# EAGLE library part MIC4812 (library NicksParts)
High current 6 channel linear WLED driver with DAM and ultrafast PWM control. 3.0 - 5.5V operation 100 mA per channel
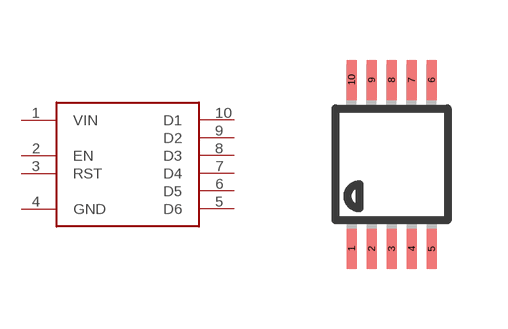
[diagram p16: symbol with the pads of MSOP10; footprint MSOP10]

Designator prefix U

## MIC4812  [MSOP10]
1  VIN
2  EN
3  RST
4  GND
5  D6
6  D5
7  D4
8  D3
9  D2
10  D1

## Footprint MSOP10 (pad centres in mm)
10-Lead Mini Small Outline Package [MSOP] (RM-10) Source: http://www.analog.com/UploadedFiles/Data_Sheets/35641221898805SSM2167_b.pdf COMPLIANT TO JEDEC STANDARDS MO-187BA
smd 0.25 x 1: 1 -1,-2.113; 2 -0.5,-2.113; 3 0,-2.113; 4 0.5,-2.113; 5 1,-2.113; 6 1,2.113; 7 0.5,2.113; 8 0,2.113; 9 -0.5,2.113; 10 -1,2.113